# EAGLE library part 16D- (library Chips)
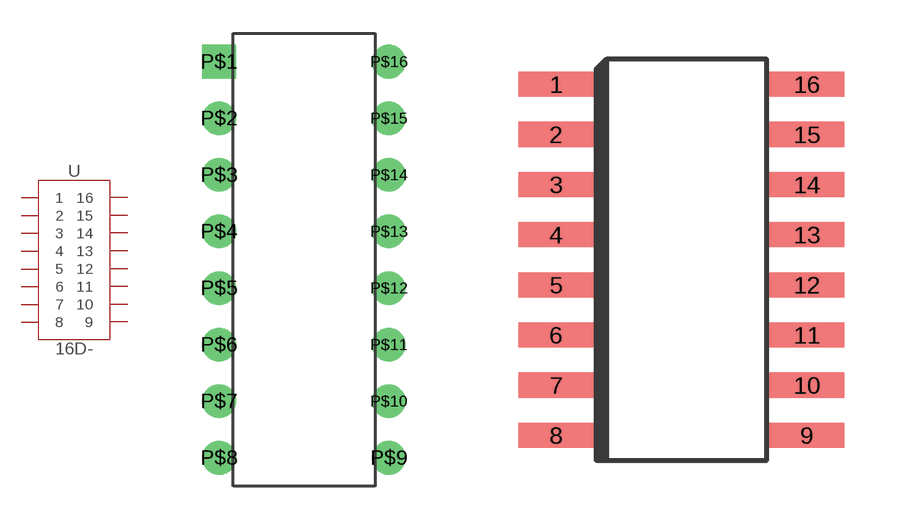
[diagram p3: symbol with the pads of 16DIP; footprints 16DIP, 16SOP_4.4MM]

Designator prefix U

## 16D-DIP  [16DIP]
P$1  1
P$2  2
P$3  3
P$4  4
P$5  5
P$6  6
P$7  7
P$8  8
P$9  9
P$10  10
P$11  11
P$12  12
P$13  13
P$14  14
P$15  15
P$16  16

## 16D-SO_4.4MM  [16SOP_4.4MM]
1  1
2  2
3  3
4  4
5  5
6  6
7  7
8  8
9  9
10  10
11  11
12  12
13  13
14  14
15  15
16  16

## 16D-SO_5.6MM  [16SOP_5.6MM]
Pads as for 16SOP_4.4MM

## 16D-SO_6.8MM  [16SOP_6.8MM]
Pads as for 16SOP_4.4MM

## 16D-SO_7.5MM  [16SOP_7.5MM]
Pads as for 16SOP_4.4MM

## 16D-SO_8.0MM  [16SOP_8.0MM]
Pads as for 16SOP_4.4MM

## Footprint 16DIP (pad centres in mm)
drill 1 square: P$1 -3.81,8.89
drill 1: P$2 -3.81,6.35; P$3 -3.81,3.81; P$4 -3.81,1.27; P$5 -3.81,-1.27; P$6 -3.81,-3.81; P$7 -3.81,-6.35; P$8 -3.81,-8.89; P$9 3.81,-8.89; P$10 3.81,-6.35; P$11 3.81,-3.81; P$12 3.81,-1.27; P$13 3.81,1.27; P$14 3.81,3.81; P$15 3.81,6.35; P$16 3.81,8.89

## Footprint 16SOP_4.4MM (pad centres in mm)
smd 1.905 x 0.635: 1 -3.175,4.445; 2 -3.175,3.175; 3 -3.175,1.905; 4 -3.175,0.635; 5 -3.175,-0.635; 6 -3.175,-1.905; 7 -3.175,-3.175; 8 -3.175,-4.445; 9 3.175,-4.445; 10 3.175,-3.175; 11 3.175,-1.905; 12 3.175,-0.635; 13 3.175,0.635; 14 3.175,1.905; 15 3.175,3.175; 16 3.175,4.445

## Footprint 16SOP_5.6MM (pad centres in mm)
smd 1.905 x 0.635: 1 -3.81,4.445; 2 -3.81,3.175; 3 -3.81,1.905; 4 -3.81,0.635; 5 -3.81,-0.635; 6 -3.81,-1.905; 7 -3.81,-3.175; 8 -3.81,-4.445; 9 3.81,-4.445; 10 3.81,-3.175; 11 3.81,-1.905; 12 3.81,-0.635; 13 3.81,0.635; 14 3.81,1.905; 15 3.81,3.175; 16 3.81,4.445

## Footprint 16SOP_6.8MM (pad centres in mm)
smd 1.905 x 0.635: 1 -4.445,4.445; 2 -4.445,3.175; 3 -4.445,1.905; 4 -4.445,0.635; 5 -4.445,-0.635; 6 -4.445,-1.905; 7 -4.445,-3.175; 8 -4.445,-4.445; 9 4.445,-4.445; 10 4.445,-3.175; 11 4.445,-1.905; 12 4.445,-0.635; 13 4.445,0.635; 14 4.445,1.905; 15 4.445,3.175; 16 4.445,4.445

## Footprint 16SOP_7.5MM (pad centres in mm)
smd 1.905 x 0.635: 1 -4.763,4.445; 2 -4.763,3.175; 3 -4.763,1.905; 4 -4.763,0.635; 5 -4.763,-0.635; 6 -4.763,-1.905; 7 -4.763,-3.175; 8 -4.763,-4.445; 9 4.763,-4.445; 10 4.763,-3.175; 11 4.763,-1.905; 12 4.763,-0.635; 13 4.763,0.635; 14 4.763,1.905; 15 4.763,3.175; 16 4.763,4.445

## Footprint 16SOP_8.0MM (pad centres in mm)
smd 1.905 x 0.635: 1 -5.08,4.445; 2 -5.08,3.175; 3 -5.08,1.905; 4 -5.08,0.635; 5 -5.08,-0.635; 6 -5.08,-1.905; 7 -5.08,-3.175; 8 -5.08,-4.445; 9 5.08,-4.445; 10 5.08,-3.175; 11 5.08,-1.905; 12 5.08,-0.635; 13 5.08,0.635; 14 5.08,1.905; 15 5.08,3.175; 16 5.08,4.445